# Altium schematic symbol library Transformer 220v to 48v.SchLib: 1 symbol
Pins are listed as number, name and electrical type; pins without a type are passive.

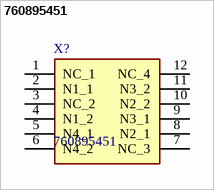
[diagram p0: symbol 760895451]

## 760895451
designator X?
Resonant Converters For For AC/DC Converters SMPS Transformer 4000Vrms Isolation 70 ~ 120kHz Through Hole; Manufacturer_Name: Wurth Elektronik; Geometry.Height: 26mm; Mouser Part Number: 710-760895451; Mouser Price/Stock: https://www.mouser.co.uk/ProductDetail/Wurth-Elektronik/760895451?qs=AAveGqk956GT0cHMbfJl9A%3D%3D; Manufacturer_Part_Number: 760895451; Datasheet Link: https://www.we-online.com/components/products/datasheet/760895451.pdf
footprint 760895451
pins: 1 NC_1, 2 N1_1, 3 NC_2, 4 N1_2, 5 N4_1, 6 N4_2, 7 NC_3, 8 N2_1, 9 N3_1, 10 N2_2, 11 N3_2, 12 NC_4